# EAGLE library part AD8223ARMZ (library SamacSys_Parts)
AD8223ARMZ, Instrumention Amplifier, 0.25mV Offset, 80dB CMRR, Rail-Rail Output, 5 to 18V, 8-Pin MSOP Source: Datasheet <https://datasheet.datasheetarchive.com/originals/distributors/Datasheets-SFU1/DSASFU10003811.pdf>
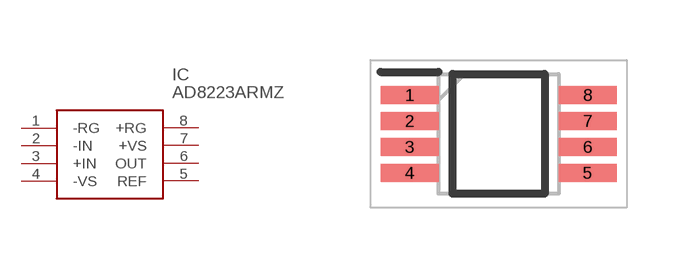
[diagram p0: symbol with the pads of SOP65P490X110-8N; footprint SOP65P490X110-8N]

Designator prefix IC

## AD8223ARMZ (DESCRIPTION: AD8223ARMZ, Instrumention Amplifier, 0.25mV Offset, 80dB CMRR, Rail-Rail Output, 5 to 18V, 8-Pin MSOP; HEIGHT: 1.1mm; MANUFACTURER_NAME: Analog Devices; MANUFACTURER_PART_NUMBER: AD8223ARMZ; MOUSER_PART_NUMBER: 584-AD8223ARMZ; MOUSER_PRICE-STOCK: https://www.mouser.co.uk/ProductDetail/Analog-Devices/AD8223ARMZ?qs=%2FtpEQrCGXCxSDZZGI%252Btj8g%3D%3D)  [SOP65P490X110-8N]
1  -RG
2  -IN
3  +IN
4  -VS
5  REF
6  OUT
7  +VS
8  +RG

## Footprint SOP65P490X110-8N (pad centres in mm)
RM-8
smd 1.45 x 0.45: 1 -2.225,0.975; 2 -2.225,0.325; 3 -2.225,-0.325; 4 -2.225,-0.975; 5 2.225,-0.975; 6 2.225,-0.325; 7 2.225,0.325; 8 2.225,0.975